# Altium integrated library T493B105K025BC6120.IntLib: 1 symbol
Pins are listed as number, name and electrical type; pins without a type are passive.

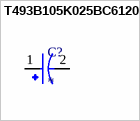
[diagram p0: symbol T493B105K025BC6120]

## T493B105K025BC6120
designator C?
Tantalum Surface Mount Capacitors; MP: T493B105K025BC6120; MF: KEMET; Package: SMD-2 Kemet; SnapEDA_Link: https://www.snapeda.com/parts/T493B105K025BC6120/KEMET/view-part/?ref=snap; Value: *; Availability: In Stock; Price: None; Check_prices: https://www.snapeda.com/parts/T493B105K025BC6120/KEMET/view-part/?ref=eda
footprint CAPPM3528X210N
pins: 1, 2